# Altium schematic symbol library OPA192IDR.SchLib: 1 symbol
Pins are listed as number, name and electrical type; pins without a type are passive.

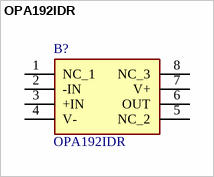
[diagram p0: symbol OPA192IDR]

## OPA192IDR
designator B?
High-Voltage, Rail-to-Rail Input/Output, 5V, 0.2V/C, Precision Operational Amplifier; Manufacturer_Name: Texas Instruments; Geometry.Height: 1.75mm; Mouser Part Number: 595-OPA192IDR; Mouser Price/Stock: https://www.mouser.co.uk/ProductDetail/Texas-Instruments/OPA192IDR?qs=wrT8kFYR77%252BLV20WgpFlnQ%3D%3D; Manufacturer_Part_Number: OPA192IDR; Datasheet Link: http://www.ti.com/lit/gpn/opa192
footprint SOIC127P600X175-8N
pins: 1 NC_1, 2 -IN, 3 +IN, 4 V-, 5 NC_2, 6 OUT, 7 V+, 8 NC_3